# Altium footprint library custom-case.PcbLib: 34 footprints (part 3 of 3)
Each footprint in its own frame and in the unit in brackets; x right, y up, seen from the top. Pads: shape width x height; smd on the part's side, far side on the other; paste and mask are expansions set on the pad; w line width, h text height; cw(c..) or ccw(c..) is an arc to the next point about the centre after c.
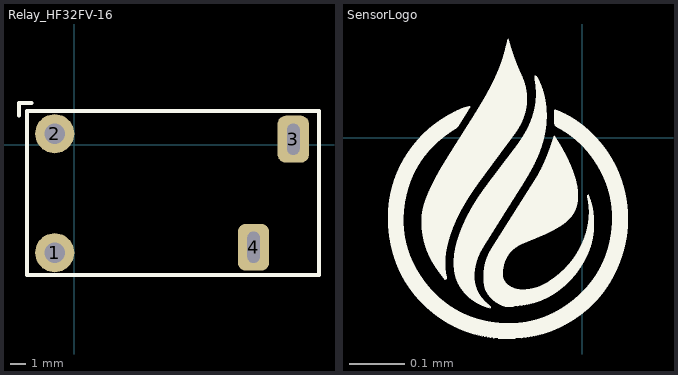
[diagram p2: the footprints below, top view; thin cyan lines are the x and y axes]

## Relay_HF32FV-16 [mm] "Relay"
pads (4):
  round 2.5 hole 1.3: 1(-1.24,-6.91) 2(-1.24,0.69)
  rrect50% 2x3 hole 0.8 slot 2 at 90 deg: 3(14,0.34) 4(11.46,-6.56)
Top Overlay:
  lines w0.254: -3.52,1.84 -3.52,2.64 -2.72,2.64 ; -3.02,-8.32 15.64,-8.32 15.64,2.14 -3.02,2.14 -3.02,-8.32
3D body "HF32FV-16.SLDPRT": height 15.5, standoff -3.6, extent -2.89,-8.19 15.51,2.01

## SensorLogo [mm]
Top Overlay:
  drawing of 4 lines, arcs and shapes, not listed